# Altium footprint library WURTH_74477110.PcbLib: 1 footprints
Each footprint in its own frame and in the unit in brackets; x right, y up, seen from the top. Pads: shape width x height; smd on the part's side, far side on the other; paste and mask are expansions set on the pad; w line width, h text height; cw(c..) or ccw(c..) is an arc to the next point about the centre after c.
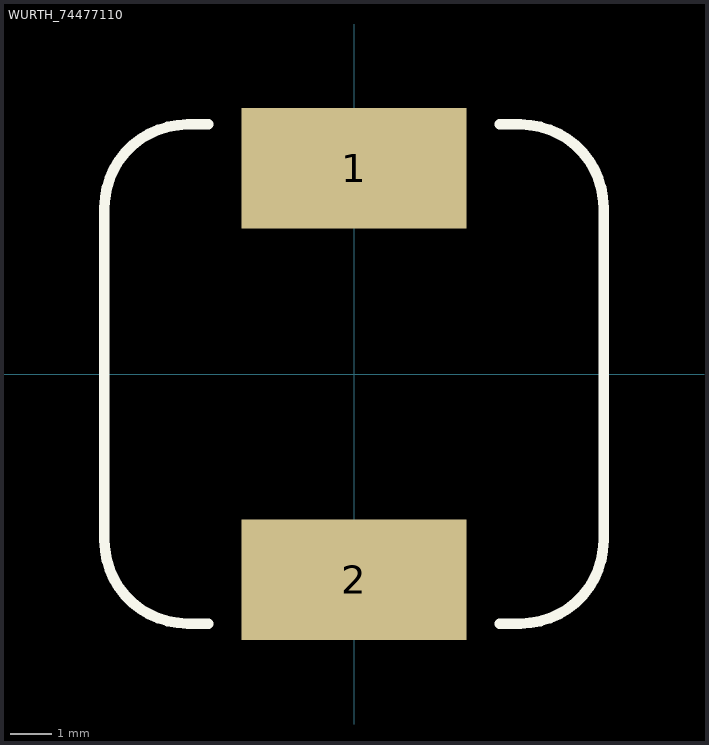
[diagram p0: the footprint, top view; thin cyan lines are the x and y axes]

## WURTH_74477110 [mm] "Wurth 74477110 inductor"
pads (2):
  rect 5.4x2.9 smd: 1(0,4.95) 2(0,-4.95)
Top Overlay:
  lines w0.254: -4,6 ccw(c-4,4) -6,4 -6,-4 ccw(c-4,-4) -4,-6 -3.5,-6 ; -4,6 -3.5,6 ; 3.5,-6 4,-6 ccw(c4,-4) 6,-4 6,4 ccw(c4,4) 4,6 ; 3.5,6 4,6
3D body "WURTH_74477110.stp": height 5.46, standoff -0.2, extent -6,-6 6,6